# Altium schematic symbol library SCH - DIODES - BICOLOR RG TH CC.SchLib: 1 symbol
Pins are listed as number, name and electrical type; pins without a type are passive.

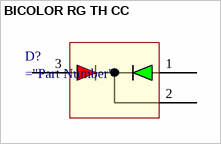
[diagram p0: symbol BICOLOR RG TH CC]

## BICOLOR RG TH CC
designator D?
BICOLOR RED GREEN TH CC; Mfr_Name: Multicomp; Manufacturer_Part_Number: MCL039PURGW; Type: DEV; Copyright: Copyright (C) 2023 Ultra Librarian. All rights reserved.; RefDes: RefDes
footprint LED BICOLOR TH 3MM
pins: 1, 2, 3